# EAGLE library part ADS1210U (library burr-brown)
24-Bit, 16 kSPS ADC
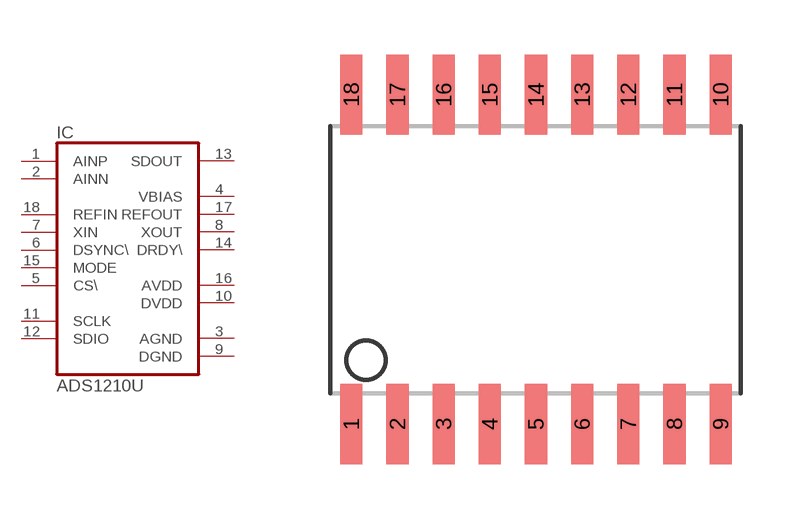
[diagram p60: symbol with the pads of SO-18L; footprint SO-18L]

Designator prefix IC

## ADS1210U  [SO-18L]
1  AINP  in
2  AINN  in
3  AGND  pwr
4  VBIAS  out
5  CS\  in
6  DSYNC\  in
7  XIN  in
8  XOUT  out
9  DGND  pwr
10  DVDD  pwr
11  SCLK
12  SDIO
13  SDOUT  out
14  DRDY\  out
15  MODE  in
16  AVDD  pwr
17  REFOUT  out
18  REFIN  in

## Footprint SO-18L (pad centres in mm)
smd 0.61 x 2.21: 1 -5.08,-4.534; 2 -3.81,-4.534; 3 -2.54,-4.534; 4 -1.27,-4.534; 5 0,-4.534; 6 1.27,-4.534; 7 2.54,-4.534; 8 3.81,-4.534; 9 5.08,-4.534; 10 5.08,4.534; 11 3.81,4.534; 12 2.54,4.534; 13 1.27,4.534; 14 0,4.534; 15 -1.27,4.534; 16 -2.54,4.534; 17 -3.81,4.534; 18 -5.08,4.534